# Altium footprint library RESC2012X50N.PcbLib: 1 footprints
Each footprint in its own frame and in the unit in brackets; x right, y up, seen from the top. Pads: shape width x height; smd on the part's side, far side on the other; paste and mask are expansions set on the pad; w line width, h text height; cw(c..) or ccw(c..) is an arc to the next point about the centre after c.
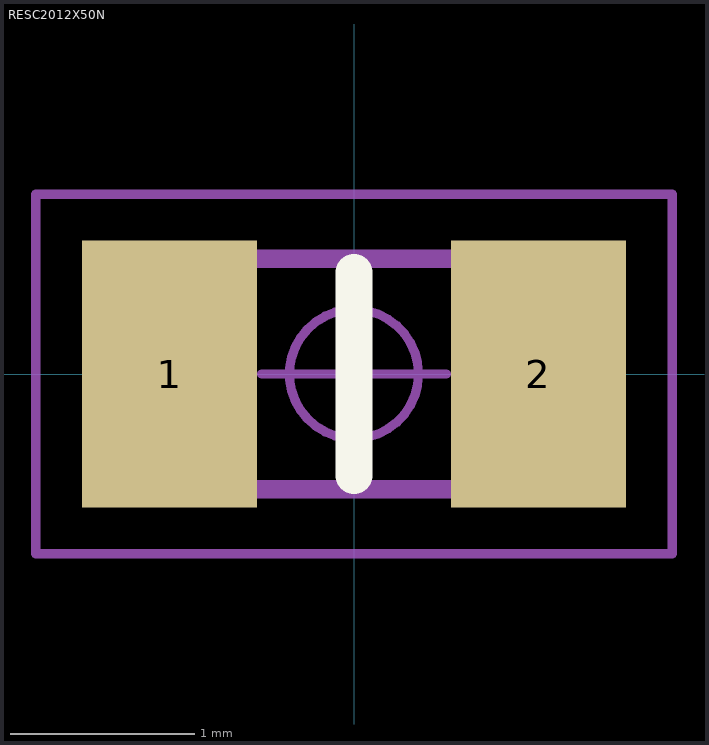
[diagram p0: the footprint, top view; thin cyan lines are the x and y axes]

## RESC2012X50N [mm] "Chip Resistor, EIA 0805, Metric 2012, Body 2.0x1.25mm, IPC Medium Density"
height 0.5
pads (2):
  rect 0.95x1.45 smd: 1(-1,0) 2(1,0)
Top Overlay:
  lines w0.2: 0,-0.55 0,0.55
Mechanical 14:
  lines w0.1: -1.025,-0.625 -1.025,0.625 1.025,0.625 1.025,-0.625 -1.025,-0.625
Mechanical 15:
  circle w0.05: c0,0 r0.35
  lines w0.05: -0.5,0 0.5,0 ; 0,-0.5 0,0.5 ; -1.725,-0.975 -1.725,0.975 1.725,0.975 1.725,-0.975 -1.725,-0.975
3D body "RESC2012X50N.stp": height 0.5, standoff 0, extent -1.1,-0.675 1.1,0.675